# EAGLE library part 2.54MM-7P-SCREW-TERMINAL (library pimoroni)
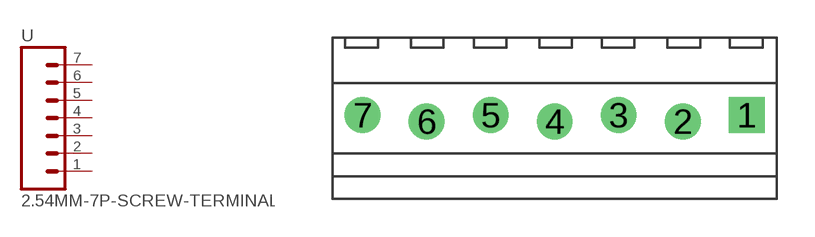
[diagram p41: symbol with the pads of 2.54MM-7P-SCREW-TERMINAL; footprint 2.54MM-7P-SCREW-TERMINAL]

Designator prefix -

## 2.54MM-7P-SCREW-TERMINALLOCK  [2.54MM-7P-SCREW-TERMINAL]
1  1  pas
2  2  pas
3  3  pas
4  4  pas
5  5  pas
6  6  pas
7  7  pas

## Footprint 2.54MM-7P-SCREW-TERMINAL (pad centres in mm)
drill 0.9 pad 1.422 square: 1 8.89,0.127
drill 0.9 pad 1.422: 2 6.35,-0.127; 3 3.81,0.127; 4 1.27,-0.127; 5 -1.27,0.127; 6 -3.81,-0.127; 7 -6.35,0.127